# EAGLE library part MC34063AP (library MC34063AP)
MC34063AP, DC-DC Converter, 1.5A 1.55 40 V, Step-Down/Up, 8-Pin PDIP Source: Datasheet <http://www.ti.com/lit/ds/symlink/mc33063a.pdf>
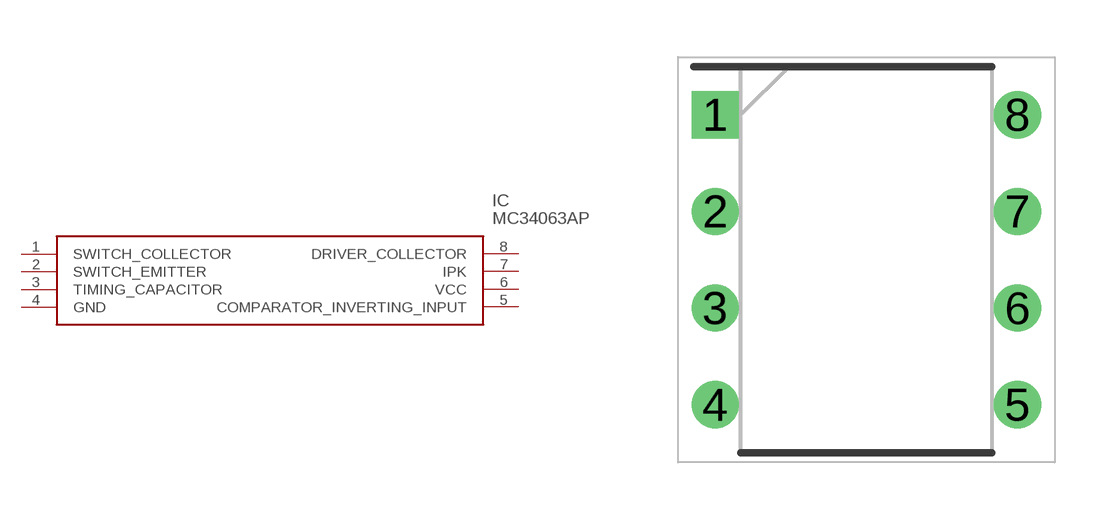
[diagram p0: symbol with the pads of DIP794W53P254L959H508Q8N; footprint DIP794W53P254L959H508Q8N]

Designator prefix IC

## MC34063AP (Arrow_Part_Number: MC34063AP; Arrow_Price-Stock: https://www.arrow.com/en/products/mc34063ap/texas-instruments?region=nac; Description: MC34063AP, DC-DC Converter, 1.5A 1.55 40 V, Step-Down/Up, 8-Pin PDIP; Height: 5.08mm; Manufacturer_Name: Texas Instruments; Manufacturer_Part_Number: MC34063AP; Mouser_Part_Number: 595-MC34063AP; Mouser_Price-Stock: https://www.mouser.co.uk/ProductDetail/Texas-Instruments/MC34063AP?qs=paYhMW8qfiu1umxNjP0GEg%3D%3D)  [DIP794W53P254L959H508Q8N]
1  SWITCH_COLLECTOR
2  SWITCH_EMITTER
3  TIMING_CAPACITOR  in
4  GND  pwr
5  COMPARATOR_INVERTING_INPUT  in
6  VCC  pwr
7  IPK
8  DRIVER_COLLECTOR

## Footprint DIP794W53P254L959H508Q8N (pad centres in mm)
P (R-PDIP-T8)
drill 0.73 pad 1.13 square: 1 -3.97,3.81
drill 0.73 pad 1.13: 2 -3.97,1.27; 3 -3.97,-1.27; 4 -3.97,-3.81; 5 3.97,-3.81; 6 3.97,-1.27; 7 3.97,1.27; 8 3.97,3.81